# Altium schematic symbol library ICs_OpAmp.SchLib: 26 symbols
Pins are listed as number, name and electrical type; pins without a type are passive.

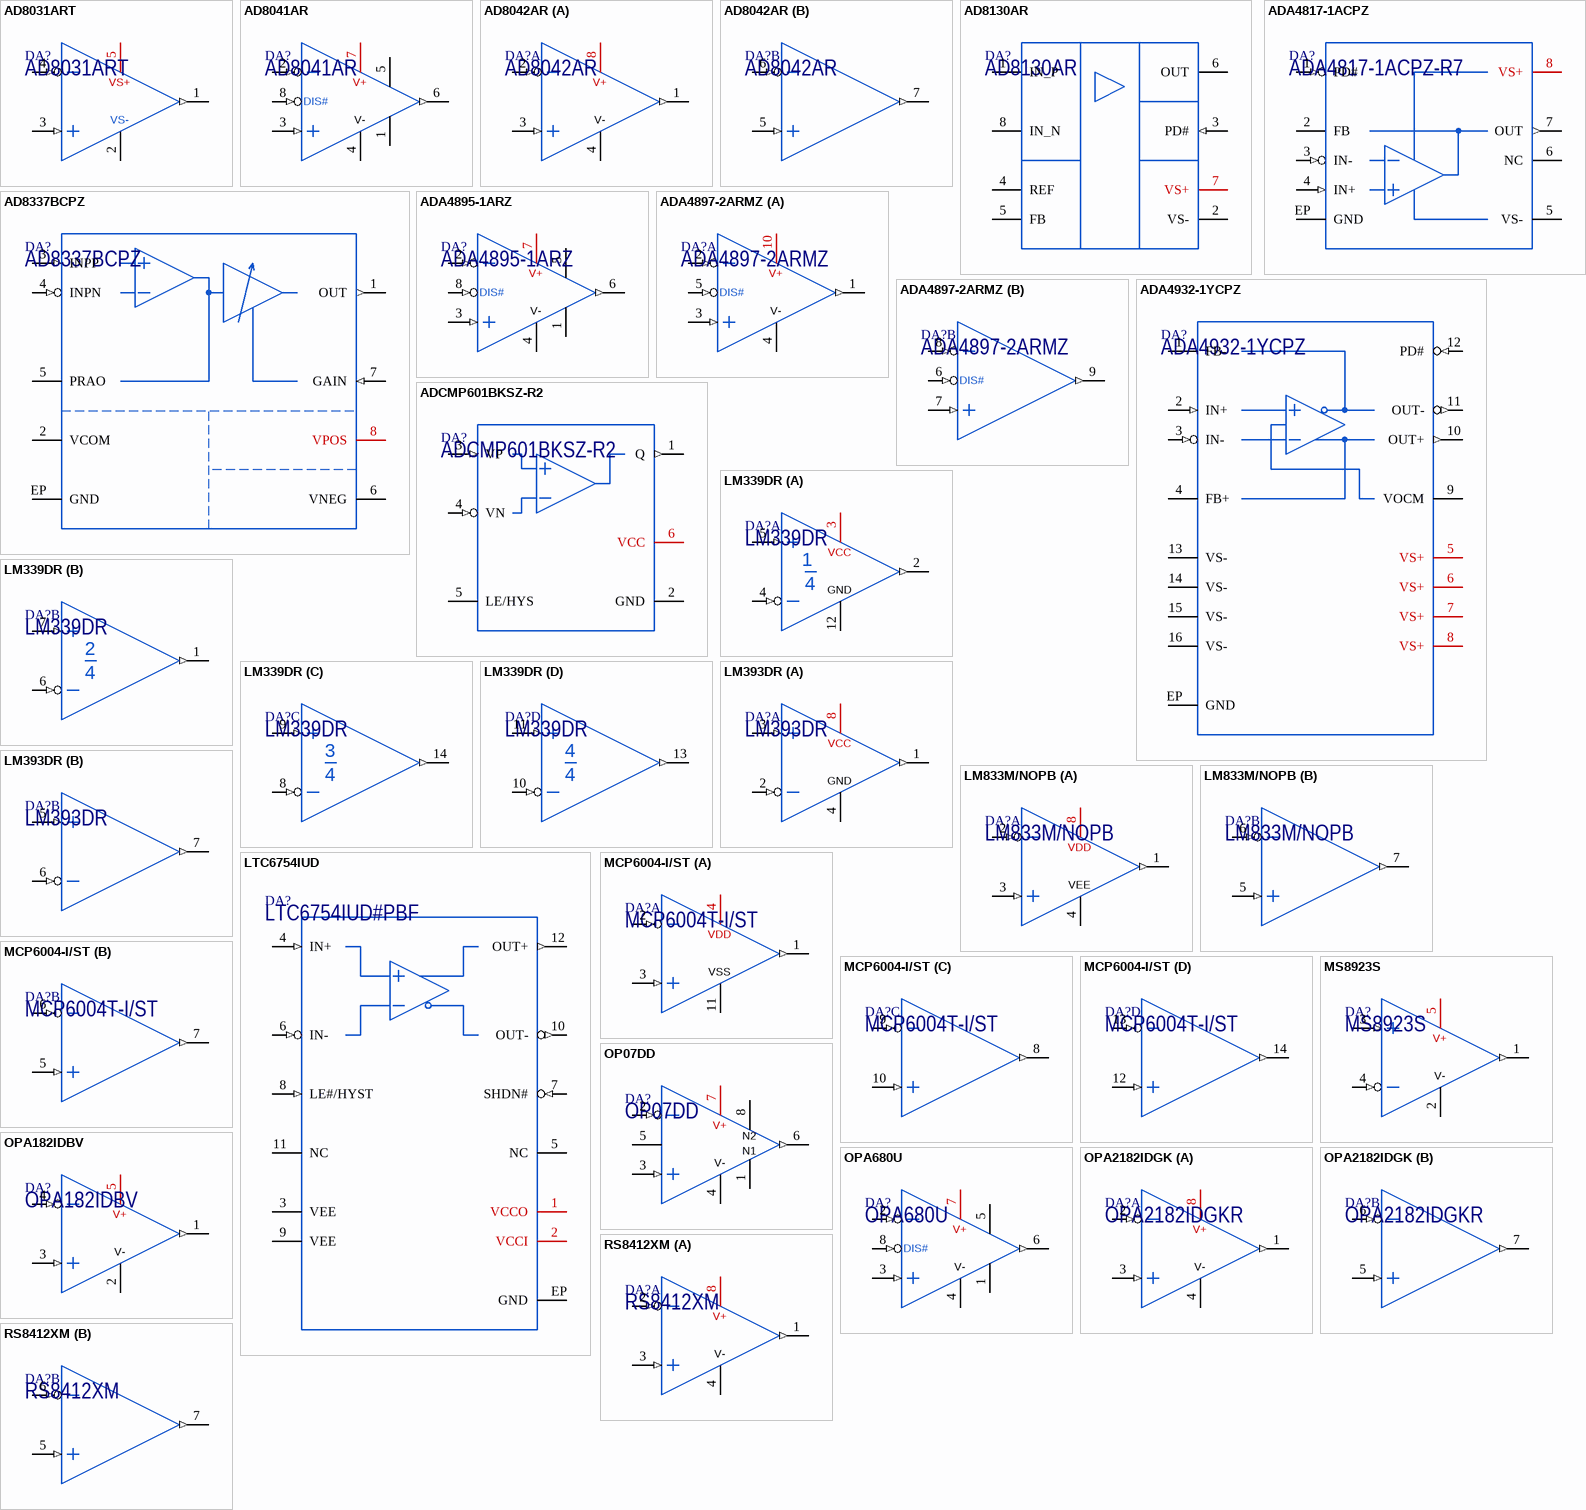
[diagram p0: symbols AD8031ART to RS8412XM]

## AD8031ART
designator DA?
2.7 V, 800 μA, 80 MHz Rail-to-Rail I/O Amplifiers; Manufacturer: Analog Devices; Marking: H04; ItemType: IC; ItemSubType: OpAmp; Alternative1: AD8031ARTZ; PartNumber: AD8031ART; Package: SOT23-5; Mounting: SMD; AltManufacturer1: Analog Devices
footprint SOT235_JEDEC_MO178AA (SOT23, 5-Leads, Body 1.60x2.90mm, Pitch 0.95mm)
pins: 1 1OUT (out), 2 V- (power), 3 1IN+ (in), 4 1IN- (in), 5 V+ (power)
text: VS+; VS-

## AD8041AR
designator DA?
160 MHz Rail-to-Rail Amplifier with Disable; Manufacturer: Analog Devices; Marking: 8041; ItemType: IC; ItemSubType: OpAmp; Alternative1: AD8041ARZ; PartNumber: AD8041AR; Package: SOIC-8; AltManufacturer1: Analog Devices; Mounting: SMD
footprint SOIC8_JEDEC_MS012AA (SOIC, 8-Leads, Body 3.90x4.90mm, Pitch 1.27mm)
pins: 1 NC (hiz), 2 INPUT- (in), 3 INPUT+ (in), 4 V-, 5 NC (hiz), 6 1OUT (out), 7 V+ (power), 8 DIS# (in)

## AD8042AR
designator DA?
Dual 160 MHz Rail-to-Rail Amplifier; Manufacturer: Analog Devices; Marking: 8042; ItemType: IC; ItemSubType: OpAmp; Alternative1: AD8042ARZ; PartNumber: AD8042AR; Package: SOIC-8; AltManufacturer1: Analog Devices; Mounting: SMD
footprint SOIC8_JEDEC_MS012AA (SOIC, 8-Leads, Body 3.90x4.90mm, Pitch 1.27mm)
part A pins: 1 1OUT (out), 2 1INPUT- (in), 3 1INPUT+ (in), 4 V-, 8 V+ (power)
part B pins: 5 2INPUT+ (in), 6 2INPUT- (in), 7 2OUT (out)

## AD8130AR
designator DA?
270 MHz Differential Receiver Amplifiers; Manufacturer: Analog Devices; Marking: AD8130; ItemType: IC; ItemSubType: OpAmp; Alternative1: AD8130ARZ; PartNumber: AD8130AR; Package: SOIC-8; AltManufacturer1: Analog Devices; Mounting: SMD
footprint SOIC8_JEDEC_MS012AA (SOIC, 8-Leads, Body 3.90x4.90mm, Pitch 1.27mm)
pins: 1 IN_P, 2 VS-, 3 PD# (in), 4 REF, 5 FB, 6 OUT, 7 VS+, 8 IN_N

## AD8337BCPZ
designator DA?
DC-Coupled Variable Gain Amplifier; Manufacturer: Analog Devices; Marking: HVB; ItemType: IC; ItemSubType: OpAmp; PartNumber: AD8337BCPZ; Package: LFCSP-8; Mounting: SMD
footprint LFCSP-8(CP-8-13) (QFN, 8-Leads, Body 3x3mm, Pitch 0.50mm, Thermal Pad 1.45x1.74mm. Compliant to JEDEC standards MO-229-WEED-4)
pins: 1 OUT (out), 2 VCOM, 3 INPP (in), 4 INPN (in), 5 PRAO, 6 VNEG (power), 7 GAIN (in), 8 VPOS (power), EP GND

## ADA4817-1ACPZ
designator DA?, comment ADA4817-1ACPZ-R7
Low Noise, 1 GHz FastFET Op Amps; Manufacturer: Analog Devices; Marking: H1F; ItemType: IC; ItemSubType: OpAmp; Alternative1: ADA4817-1ACPZ-RL; PartNumber: ADA4817-1ACPZ-R7; Package: LFCSP-8; AltManufacturer1: Analog Devices; Mounting: SMD
footprint LFCSP-8(CP-8-13) (QFN, 8-Leads, Body 3x3mm, Pitch 0.50mm, Thermal Pad 1.45x1.74mm. Compliant to JEDEC standards MO-229-WEED-4)
pins: 1 PD# (in), 2 FB, 3 IN- (in), 4 IN+ (in), 5 VS- (power), 6 NC (hiz), 7 OUT (out), 8 VS+ (power), EP GND

## ADA4895-1ARZ
designator DA?
Low Power, 1 nV/√Hz, Rail-to-Rail Output Amplifier; Manufacturer: Analog Devices; Marking: 4895-1; ItemType: IC; ItemSubType: OpAmp; PartNumber: ADA4895-1ARZ; Package: SOIC-8; Mounting: SMD
footprint SOIC8_JEDEC_MS012AA (SOIC, 8-Leads, Body 3.90x4.90mm, Pitch 1.27mm)
pins: 1 NC (hiz), 2 1IN- (in), 3 1IN+ (in), 4 V- (power), 5 NC (hiz), 6 1OUT (out), 7 V+ (power), 8 DIS (in)
text: DIS#

## ADA4897-2ARMZ
designator DA?
Low Power, 1 nV/√Hz, Rail-to-Rail Output Amplifier; Manufacturer: Analog Devices; Marking: H2N; ItemType: IC; ItemSubType: OpAmp; PartNumber: ADA4897-2ARMZ; Package: MSOP-10; Mounting: SMD
footprint MSOP10_JEDEC_MO187BA (MSOP, 10-Leads, Body 3.00x3.00mm, Pitch 0.5mm)
part A pins: 1 1OUT (out), 2 1IN- (in), 3 1IN+ (in), 4 V- (power), 5 DIS1 (in), 10 V+ (power)
part B pins: 6 DIS2 (in), 7 2IN+ (in), 8 2IN- (in), 9 2OUT (out)
part A text: DIS#
part B text: DIS#

## ADA4932-1YCPZ
designator DA?
Differential ADC Driver; Manufacturer: Analog Devices; Marking: H1K; ItemType: IC; ItemSubType: OpAmp; PartNumber: ADA4932-1YCPZ; Package: LFCSP-16; Mounting: SMD
footprint LFCSP-16(CP-16-21) (QFN, 16-Leads, Body 3x3mm, Pitch 0.50mm, Thermal Pad 1.30x1.30mm. Compliant to JEDEC standards MO-220-WEED-6)
pins: 1 FB-, 2 IN+ (in), 3 IN- (in), 4 FB+, 5 VS+ (power), 6 VS+ (power), 7 VS+ (power), 8 VS+ (power), 9 VOCM, 10 OUT+ (out), 11 OUT- (out), 12 PD# (in), 13 VS- (power), 14 VS- (power), 15 VS- (power), 16 VS- (power), EP GND

## ADCMP601BKSZ-R2
designator DA?
Rail-to-Rail, Very Fast, 2.5 V to 5.5 V Single-Supply TTL/CMOS Comparators; Manufacturer: Analog Devices; Marking: G0N; ItemType: IC; PartNumber: ADCMP601BKSZ-R2; Package: SC70-6; ItemSubType: Comparator; Mounting: SMD
footprint SC706_JEDEC_MO203AB (SC70, 6-Leads, Body 1.25x2.00mm, Pitch 0.65mm)
pins: 1 Q (out), 2 GND, 3 VP (in), 4 VN (in), 5 LE/HYS, 6 VCC (power)

## LM339DR
designator DA?
Quad Comparator; Manufacturer: Texas Instruments; Marking: LM339; ItemType: IC; PartNumber: LM339DR; Package: SOIC-14; ItemSubType: Comparator; Mounting: SMD
footprint SOIC14_JEDEC_MS012AB (SOIC, 14-Leads, Body 3.90x8.65mm, Pitch 1.27mm)
part A pins: 2 1OUT (out), 3 VCC (power), 4 1IN- (in), 5 1IN+ (in), 12 GND
part B pins: 1 2OUT (out), 6 2IN- (in), 7 2IN+ (in)
part C pins: 8 3IN- (in), 9 3IN+ (in), 14 3OUT (out)
part D pins: 10 4IN- (in), 11 4IN+ (in), 13 4OUT (out)

## LM393DR
designator DA?
Dual Comparator; Manufacturer: Texas Instruments; Marking: LM393; ItemType: IC; PartNumber: LM393DR; Package: SOIC-8; ItemSubType: Comparator; Mounting: SMD
footprint SOIC8_JEDEC_MS012AA (SOIC, 8-Leads, Body 3.90x4.90mm, Pitch 1.27mm)
part A pins: 1 1OUT (out), 2 1IN- (in), 3 1IN+ (in), 4 GND, 8 VCC (power)
part B pins: 5 2IN+ (in), 6 2IN- (in), 7 2OUT (out)

## LM833M/NOPB
designator DA?
Dual Operational Amplifier; Manufacturer: Texas Instruments; ItemType: IC; ItemSubType: OpAmp; PartNumber: LM833M/NOPB; Package: SOIC-8; Mounting: SMD
footprint SOIC8_JEDEC_MS012AA (SOIC, 8-Leads, Body 3.90x4.90mm, Pitch 1.27mm)
part A pins: 1 1OUT (out), 2 1INPUT- (in), 3 1INPUT+ (in), 4 V-, 8 V+ (power)
part B pins: 5 2INPUT+ (in), 6 2INPUT- (in), 7 2OUT (out)
part A text: VDD; VEE

## LTC6754IUD
designator DA?, comment LTC6754IUD#PBF
High Speed Rail-to-Rail Input Comparator with LVDS Compatible Outputs; Manufacturer: Analog Devices; Marking: LGVJ; ItemType: IC; ItemSubType: OpAmp; Alternative1: LTC6754HUD#PBF; PartNumber: LTC6754IUD#PBF; Package: QFN-12; AltManufacturer1: Analog Devices; Mounting: SMD
footprint QFN12_LTC6754 (QFN, 12-lead, 3mm x 3mm, 0.5mm pitch)
pins: 1 VCCO (power), 2 VCCI (power), 3 VEE (power), 4 IN+ (in), 5 NC (hiz), 6 IN- (in), 7 SHDN# (in), 8 LE#/HYST (in), 9 VEE (power), 10 OUT- (out), 11 NC (hiz), 12 OUT+ (out), EP GND

## MCP6004-I/ST
designator DA?, comment MCP6004T-I/ST
1 MHz, Rail-to-Rail Input/Output, Low-Power Op Amp; Manufacturer: Microchip; Marking: 6004IST; ItemType: IC; ItemSubType: OpAmp; Alternative1: MCP6004T-E/ST; PartNumber: MCP6004T-I/ST; Package: TSSOP-14; AltManufacturer1: Microchip; Mounting: SMD
footprint TSSOP14_MICROCHIP (TSSOP, 14-Leads, Body 5.0x4.40mm, Pitch 0.65mm)
part A pins: 1 VOUTA (out), 2 VINA_N (in), 3 VINA_P (in), 4 VDD (power), 11 VSS (power)
part B pins: 5 VINB_P (in), 6 VINB_N (in), 7 VOUTB (out)
part C pins: 8 VOUTC (out), 9 VINC_N (in), 10 VINC_P (in)
part D pins: 12 VIND_P (in), 13 VIND_N (in), 14 VOUTD (out)

## MS8923S
designator DA?
High-Precision, Push-Pull Output Comparator; Manufacturer: Ruimeng; Marking: 8923S; ItemType: IC; PartNumber: MS8923S; Package: SOT23-5; ItemSubType: Comparator; Mounting: SMD
footprint SOT235_JEDEC_MO178AA (SOT23, 5-Leads, Body 1.60x2.90mm, Pitch 0.95mm)
pins: 1 Q (out), 2 V- (power), 3 1IN+ (in), 4 1IN- (in), 5 VCC (power)
text: V+

## OP07DD
designator DA?
Low Offset Voltage Operational Amplifier; Manufacturer: Texas Instruments; ItemType: IC; ItemSubType: OpAmp; PartNumber: OP07DD; Package: SOIC-8; Mounting: SMD
footprint SOIC8_JEDEC_MS012AA (SOIC, 8-Leads, Body 3.90x4.90mm, Pitch 1.27mm)
pins: 1 OFFSET_N1, 2 INPUT- (in), 3 INPUT+ (in), 4 V-, 5 NC (hiz), 6 1OUT (out), 7 V+ (power), 8 OFFSET_N2
text: N2; N1

## OPA182IDBV
designator DA?
5-MHz, Low-Noise, Zero-Drift, MUX-Friendly, Precision Op Amps; Manufacturer: Texas Instruments; Marking: 2RXQ; ItemType: IC; ItemSubType: OpAmp; PartNumber: OPA182IDBV; Package: SOT23-5; Mounting: SMD
footprint SOT235_JEDEC_MO178AA (SOT23, 5-Leads, Body 1.60x2.90mm, Pitch 0.95mm)
footprint SOT235_SOIC8_OPA182 (SOP-28, 300 mil)
pins: 1 1OUT (out), 2 V- (power), 3 1IN+ (in), 4 1IN- (in), 5 V+ (power)

## OPA680U
designator DA?
Wideband, Voltage Feedback / Operational Amplifier With Disable; Manufacturer: Texas Instruments; Marking: 680U; ItemType: IC; ItemSubType: OpAmp; PartNumber: OPA680U; Package: SOIC-8; Mounting: SMD
footprint SOIC8_JEDEC_MS012AA (SOIC, 8-Leads, Body 3.90x4.90mm, Pitch 1.27mm)
pins: 1 NC (hiz), 2 1IN- (in), 3 1IN+ (in), 4 V- (power), 5 NC (hiz), 6 1OUT (out), 7 V+ (power), 8 DIS (in)
text: DIS#

## OPA2182IDGK
designator DA?, comment OPA2182IDGKR
5-MHz, Low-Noise, Zero-Drift, MUX-Friendly, Precision Op Amps; Manufacturer: Texas Instruments; Marking: 26RQ; ItemType: IC; ItemSubType: OpAmp; Alternative1: OPA2182IDGKT; PartNumber: OPA2182IDGKR; Package: VSSOP-8; AltManufacturer1: Texas Instruments; Mounting: SMD
footprint VSSOP8_DGK0008A (MSOP, 8-Leads, Body 3.00x3.00mm, Pitch 0.65mm, TI case DGK0008A)
part A pins: 1 1OUT (out), 2 1IN- (in), 3 1IN+ (in), 4 V- (power), 8 V+ (power)
part B pins: 5 2IN+ (in), 6 2IN- (in), 7 2OUT (out)

## RS8412XM
designator DA?
36V, 1.2MHz Rail-to-Rail Output CMOS Operational Amplifier; Manufacturer: Runic; Marking: RS8412; ItemType: IC; ItemSubType: OpAmp; PartNumber: RS8412XM; Package: MSOP-8; Mounting: SMD
footprint MSOP8_JEDEC_MO187AA (MSOP, 8-Leads, Body 3.00x3.00mm, Pitch 0.65mm)
part A pins: 1 1OUT (out), 2 1IN- (in), 3 1IN+ (in), 4 V- (power), 8 V+ (power)
part B pins: 5 2IN+ (in), 6 2IN- (in), 7 2OUT (out)

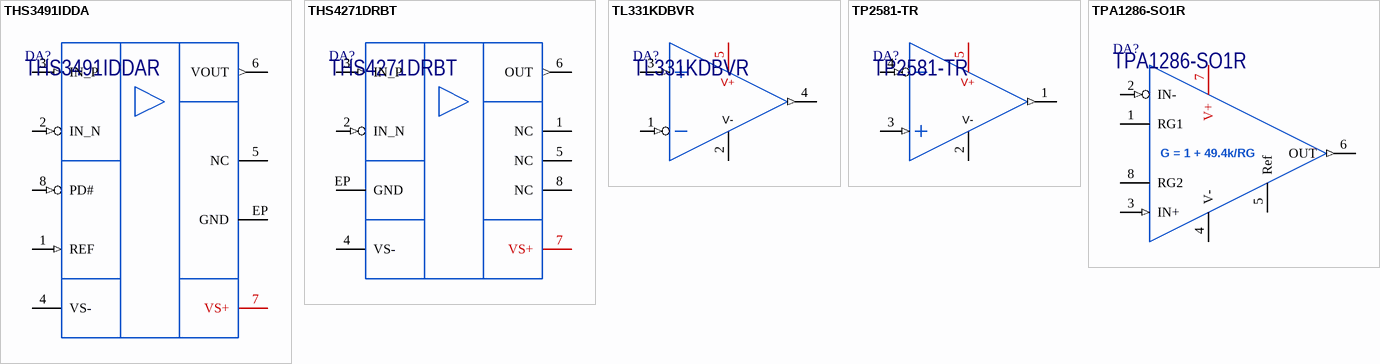
[diagram p1: symbols THS3491IDDA to TPA1286-SO1R]

## THS3491IDDA
designator DA?, comment THS3491IDDAR
900-MHz, 500-mA High-Power Output Current Feedback Amplifier; Manufacturer: Texas Instruments; Marking: HS3491; ItemType: IC; ItemSubType: OpAmp; Alternative1: THS3491IDDAT; PartNumber: THS3491IDDAR; Package: SOIC-8EP; AltManufacturer1: Texas Instruments; Mounting: SMD
footprint SOIC8EP_R-PDSO-G8 (Power SOIC-8 package with exponsed pad)
pins: 1 REF (in), 2 IN_N (in), 3 IN_P (in), 4 VS- (power), 5 NC (hiz), 6 VOUT (out), 7 VS+ (power), 8 PD# (in), EP GND

## THS4271DRBT
designator DA?
Low Noise, High Slew Rate, Unity Gain Stable Voltage Feedback Amplifier; Manufacturer: Texas Instruments; Marking: 4271; ItemType: IC; ItemSubType: OpAmp; PartNumber: THS4271DRBT; Package: VSON8; Mounting: SMD
footprint VSON8_DRB0008A (VSON8, 3mm x 3mm TI Reference DRB0008A)
pins: 1 NC (hiz), 2 IN_N (in), 3 IN_P (in), 4 VS- (power), 5 NC (hiz), 6 OUT (out), 7 VS+ (power), 8 NC (hiz), EP GND

## TL331KDBVR
designator DA?
Single Comparator; Manufacturer: Texas Instruments; Marking: T1Kx; ItemType: IC; PartNumber: TL331KDBVR; Package: SOT23-5; ItemSubType: Comparator; Mounting: SMD
footprint SOT235_JEDEC_MO178AA (SOT23, 5-Leads, Body 1.60x2.90mm, Pitch 0.95mm)
pins: 1 IN- (in), 2 V-, 3 IN+ (in), 4 OUT (out), 5 V+ (power)

## TP2581-TR
designator DA?
36V, 10MHz, 8V/μs Op Amps; Manufacturer: 3Peak; Marking: 258xx; ItemType: IC; ItemSubType: OpAmp; PartNumber: TP2581-TR; Package: SOT23-5; Mounting: SMD
footprint SOT235_JEDEC_MO178AA (SOT23, 5-Leads, Body 1.60x2.90mm, Pitch 0.95mm)
footprint SOT235_SOIC8_OPA182 (SOP-28, 300 mil)
pins: 1 1OUT (out), 2 V- (power), 3 1IN+ (in), 4 1IN- (in), 5 V+ (power)

## TPA1286-SO1R
designator DA?
High Voltage, Precision, Zero-drift, Instrumentation Amplifier; Manufacturer: 3PEAK; AltManufacturer1: Texas Instruments; Alternative1: INA129U; Marking: 1286; ItemType: IC; ItemSubType: OpAmp; PartNumber: TPA1286-SO1R; Package: SOIC-8; Mounting: SMD
footprint SOIC8_JEDEC_MS012AA (SOIC, 8-Leads, Body 3.90x4.90mm, Pitch 1.27mm)
pins: 1 RG1, 2 IN- (in), 3 IN+ (in), 4 V- (power), 5 Ref, 6 OUT (out), 7 V+ (power), 8 RG2
text: G = 1 + 49.4k/RG